# EAGLE library part WE-RJ45_74991204400 (library WE-RJ45_LAN)
WE-RJ45 LAN Transformer Characteristics RJ45 Connector with integrated transformer / common mode choke Power over Ethernet up to 50 Watt and speeds up to 10 Gbit/s Available in SMD, THT and THT with USB Compliant with standards: IEEE 802.3u, IEEE 802.3ab, IEEE 802.3af, IEEE 802.3at, IEEE 802.3an and upcoming IEE 802.3bt Applications Suitable for industrial temperatures from –40 °C up to +85 °C Compatible to Industrial Ethernet systems like EtherCAT or Profinet Compliant with most IC’s for Ethernet applications such as Microchip, Texas Instruments, Broadcom, Linear Technology Hubs, Routers, Switches, IP cameras, IoT applications <https://www.we-online.com/components/media/o35731v209%20Family-WE-RJ45LAN-7499xxxxxx.jpg> Details see: www.we-online.com/components/products/WE-LAN-RJ45 <www.we-online.com/catalog/WE-LAN-RJ45/?utm_source=eagle_model&utm_medium=description_link&utm_campaign=eisos_eagle> Created by Ella Wu 2021-09-06 2021 (C) Wurth Elektronik
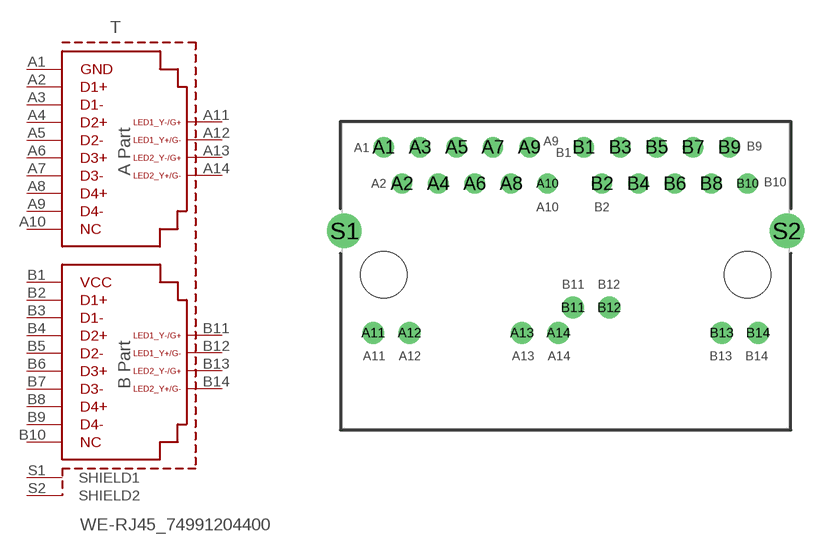
[diagram p47: symbol with the pads of 74991204400; footprint 74991204400]

Designator prefix T

## WE-RJ45_74991204400 (DATA-RATE: 1000BASE-T; DATASHEET-URL: https://www.we-online.com/redexpert/spec/74991204400?ae; IMPROVED-CMRR: No; LED: yellow/green-yellow/green; MOUNT: THT; OPERATING-TEMPERATURE: -40 °C up to +85 °C; PART-NUMBER: 74991204400; PHY-CHIP-MODE: voltage; POE: non-PoE; PORTS: 1x2; SHIELD-TABS: No; TAB: Down; USB: No; VALUE: 74991204400)  [74991204400]
A1  A1  pas
A2  A2  pas
A3  A3  pas
A4  A4  pas
A5  A5  pas
A6  A6  pas
A7  A7  pas
A8  A8  pas
A9  A9  pas
A10  A10  pas
A11  A11  pas
A12  A12  pas
A13  A13  pas
A14  A14  pas
B1  B1  pas
B2  B2  pas
B3  B3  pas
B4  B4  pas
B5  B5  pas
B6  B6  pas
B7  B7  pas
B8  B8  pas
B9  B9  pas
B10  B10  pas
B11  B11  pas
B12  B12  pas
B13  B13  pas
B14  B14  pas
S1  SHIELD1  pas
S2  SHIELD2  pas

## Footprint 74991204400 (pad centres in mm)
WE-RJ45 LAN Transformer 1000 Base-T
drill 0.9: A1 -12.7,8.89; A2 -11.43,6.35; A3 -10.16,8.89; A4 -8.89,6.35; A5 -7.62,8.89; A6 -6.35,6.35; A7 -5.08,8.89; A8 -3.81,6.35; A9 -2.54,8.89; A10 -1.27,6.35; B1 1.27,8.89; B2 2.54,6.35; B3 3.81,8.89; B4 5.08,6.35; B5 6.35,8.89; B6 7.62,6.35; B7 8.89,8.89; B8 10.16,6.35; B9 11.43,8.89; B10 12.7,6.35
drill 1.02: A11 -13.43,-4.06; A12 -10.89,-4.06; A13 -3.05,-4.06; A14 -0.51,-4.06; B11 0.51,-2.29; B12 3.05,-2.29; B13 10.89,-4.06; B14 13.43,-4.06
drill 1.6: S1 -15.44,3.05; S2 15.44,3.05
hole 3.25 at -12.7,0
hole 3.25 at 12.7,0